# EAGLE library part AP63301WU-7 (library 3D_MIG_Controller)
Buck Regulator, 3.8V-32V Input, 3A Low IQ Synchronous Buck Converter with Enhanced EMI
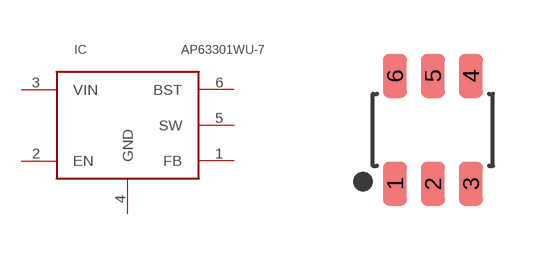
[diagram p64: symbol with the pads of SOT23-6; footprint SOT23-6]

Designator prefix IC

## AP63301WU-7  [SOT23-6]
1  FB
2  EN
3  VIN
4  GND
5  SW
6  BST

## Footprint SOT23-6 (pad centres in mm)
smd 0.6 x 1.1: 1 -0.95,-1.35; 2 0,-1.35; 3 0.95,-1.35; 4 0.95,1.35; 5 0,1.35; 6 -0.95,1.35